# Altium schematic symbol library Connector_Audio.SchLib: 233 symbols (part 2 of 2)
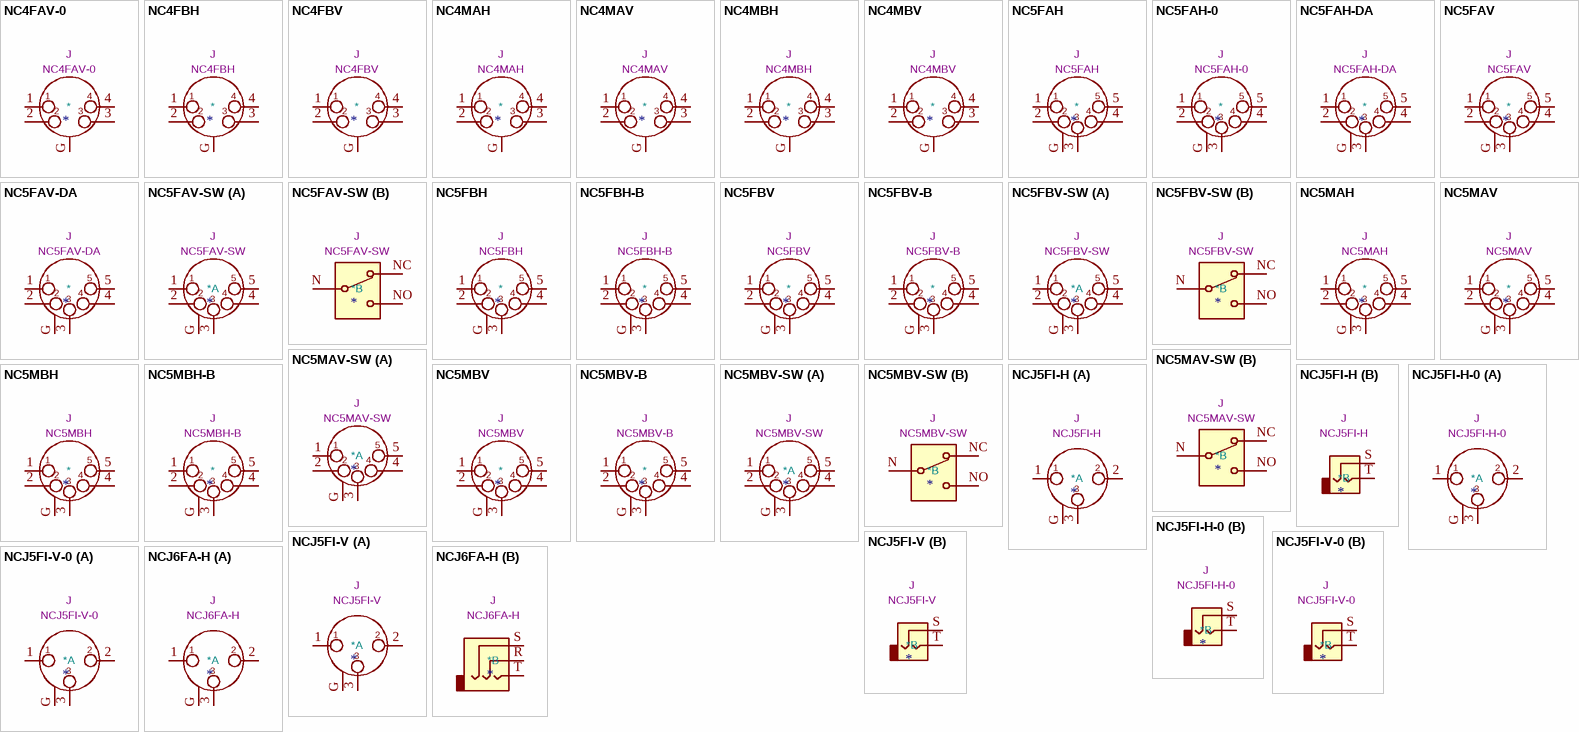
[diagram p8: symbols NC4FAV-0 to NCJ6FA-H]

## NC5FBH
designator *  value NC5FBH  Reference: J
ki_keywords: xlr connector neutrik; ki_description: B Series, 5 pole female XLR receptacle, grounding: separate ground contact to mating connector shell and front panel, horizontal PCB mount; ki_fp_filters: Jack*XLR*; Footprint: Connector_Audio:Jack_XLR_Neutrik_NC5FBH_Horizontal; Datasheet: https://www.neutrik.com/en/product/nc5fbh
pins: 1 P1, 2 P2, 3 P3, 4 P3, 5 P5, G

## NC5FBH-B
designator *  value NC5FBH-B  Reference: J
ki_keywords: xlr connector neutrik; ki_description: B Series, 5 pole female XLR receptacle, grounding: separate ground contact to mating connector shell and front panel, horizontal PCB mount, black chrome shell; ki_fp_filters: Jack*XLR*; Footprint: Connector_Audio:Jack_XLR_Neutrik_NC5FBH-B_Horizontal; Datasheet: https://www.neutrik.com/en/product/nc5fbh-b
pins: 1 P1, 2 P2, 3 P3, 4 P3, 5 P5, G

## NC5FBV
designator *  value NC5FBV  Reference: J
ki_keywords: xlr connector neutrik; ki_description: B Series, 5 pole female XLR receptacle, grounding: separate ground contact to mating connector shell and front panel, vertical PCB mount; ki_fp_filters: Jack*XLR*; Footprint: Connector_Audio:Jack_XLR_Neutrik_NC5FBV_Vertical; Datasheet: https://www.neutrik.com/en/product/nc5fbv
pins: 1 P1, 2 P2, 3 P3, 4 P3, 5 P5, G

## NC5FBV-B
designator *  value NC5FBV-B  Reference: J
ki_keywords: xlr connector neutrik; ki_description: B Series, 5 pole female XLR receptacle, grounding: separate ground contact to mating connector shell and front panel, vertical PCB mount, black chrome shell; ki_fp_filters: Jack*XLR*; Footprint: Connector_Audio:Jack_XLR_Neutrik_NC5FBV-B_Vertical; Datasheet: https://www.neutrik.com/en/product/nc5fbv-b
pins: 1 P1, 2 P2, 3 P3, 4 P3, 5 P5, G

## NC5FBV-SW
designator *  value NC5FBV-SW  Reference: J
ki_keywords: xlr connector spdt switch neutrik; ki_description: B Series, 5 pole female XLR receptacle, switching contacts, grounding: separate ground contact to mating connector shell and front panel, vertical PCB mount; ki_fp_filters: Jack*XLR*; Footprint: Connector_Audio:Jack_XLR_Neutrik_NC5FBV-SW_Vertical; Datasheet: https://www.neutrik.com/en/product/nc5fbv-sw
part A pins: 1 P1, 2 P2, 3 P3, 4 P3, 5 P5, G
part B pins: N, NC, NO

## NC5MAH
designator *  value NC5MAH  Reference: J
ki_keywords: xlr connector neutrik; ki_description: A Series, 5 pole male XLR receptacle, grounding: separate ground contact to mating connector shell and front panel, horizontal PCB mount; ki_fp_filters: Jack*XLR*; Footprint: Connector_Audio:Jack_XLR_Neutrik_NC5MAH_Horizontal; Datasheet: https://www.neutrik.com/en/product/nc5mah
pins: 1 P1, 2 P2, 3 P3, 4 P3, 5 P5, G

## NC5MAV
designator *  value NC5MAV  Reference: J
ki_keywords: xlr connector neutrik; ki_description: A Series, 5 pole male XLR receptacle, grounding: separate ground contact to mating connector shell and front panel, vertical PCB mount; ki_fp_filters: Jack*XLR*; Footprint: Connector_Audio:Jack_XLR_Neutrik_NC5MAV_Vertical; Datasheet: https://www.neutrik.com/en/product/nc5mav
pins: 1 P1, 2 P2, 3 P3, 4 P3, 5 P5, G

## NC5MAV-SW
designator *  value NC5MAV-SW  Reference: J
ki_keywords: xlr connector spdt switch neutrik; ki_description: A Series, 5 pole male XLR receptacle, switching contacts, grounding: separate ground contact to mating connector shell and front panel, vertical PCB mount; ki_fp_filters: Jack*XLR*; Footprint: Connector_Audio:Jack_XLR_Neutrik_NC5MAV-SW_Vertical; Datasheet: https://www.neutrik.com/en/product/nc5mav-sw
part A pins: 1 P1, 2 P2, 3 P3, 4 P3, 5 P5, G
part B pins: N, NC, NO

## NC5MBH
designator *  value NC5MBH  Reference: J
ki_keywords: xlr connector neutrik; ki_description: B Series, 5 pole male XLR receptacle, grounding: separate ground contact to mating connector shell and front panel, horizontal PCB mount; ki_fp_filters: Jack*XLR*; Footprint: Connector_Audio:Jack_XLR_Neutrik_NC5MBH_Horizontal; Datasheet: https://www.neutrik.com/en/product/nc5mbh
pins: 1 P1, 2 P2, 3 P3, 4 P3, 5 P5, G

## NC5MBH-B
designator *  value NC5MBH-B  Reference: J
ki_keywords: xlr connector neutrik; ki_description: B Series, 5 pole male XLR receptacle, grounding: separate ground contact to mating connector shell and front panel, horizontal PCB mount, black chrome shell; ki_fp_filters: Jack*XLR*; Footprint: Connector_Audio:Jack_XLR_Neutrik_NC5MBH-B_Horizontal; Datasheet: https://www.neutrik.com/en/product/nc5mbh-b
pins: 1 P1, 2 P2, 3 P3, 4 P3, 5 P5, G

## NC5MBV
designator *  value NC5MBV  Reference: J
ki_keywords: xlr connector neutrik; ki_description: B Series, 5 pole male XLR receptacle, grounding: separate ground contact to mating connector shell and front panel, vertical PCB mount; ki_fp_filters: Jack*XLR*; Footprint: Connector_Audio:Jack_XLR_Neutrik_NC5MBV_Vertical; Datasheet: https://www.neutrik.com/en/product/nc5mbv
pins: 1 P1, 2 P2, 3 P3, 4 P3, 5 P5, G

## NC5MBV-B
designator *  value NC5MBV-B  Reference: J
ki_keywords: xlr connector neutrik; ki_description: B Series, 5 pole male XLR receptacle, grounding: separate ground contact to mating connector shell and front panel, vertical PCB mount, black chrome shell; ki_fp_filters: Jack*XLR*; Footprint: Connector_Audio:Jack_XLR_Neutrik_NC5MBV-B_Vertical; Datasheet: https://www.neutrik.com/en/product/nc5mbv-b
pins: 1 P1, 2 P2, 3 P3, 4 P3, 5 P5, G

## NC5MBV-SW
designator *  value NC5MBV-SW  Reference: J
ki_keywords: xlr connector spdt switch neutrik; ki_description: B Series, 5 pole male XLR receptacle, switching contacts, grounding: separate ground contact to mating connector shell and front panel, vertical PCB mount; ki_fp_filters: Jack*XLR*; Footprint: Connector_Audio:Jack_XLR_Neutrik_NC5MBV-SW_Vertical; Datasheet: https://www.neutrik.com/en/product/nc5mbv-sw
part A pins: 1 P1, 2 P2, 3 P3, 4 P3, 5 P5, G
part B pins: N, NC, NO

## NCJ5FI-H
designator *  value NCJ5FI-H  Reference: J
ki_keywords: xlr connector neutrik; ki_description: Combo I series, 3 pole XLR female receptacle with 6.35mm (1/4in) mono jack without switching contact, horizontal PCB mount, retention spring; ki_fp_filters: Jack*XLR*6.35mm*; Footprint: Connector_Audio:Jack_XLR-6.35mm_Neutrik_NCJ5FI-H_Horizontal; Datasheet: https://www.neutrik.com/en/product/ncj5fi-h
part A pins: 1, 2, 3, G
part B pins: S, T

## NCJ5FI-H-0
designator *  value NCJ5FI-H-0  Reference: J
ki_keywords: xlr connector neutrik; ki_description: Combo I series, 3 pole XLR female receptacle with 6.35mm (1/4in) mono jack without switching contact, horizontal PCB mount; ki_fp_filters: Jack*XLR*6.35mm*; Footprint: Connector_Audio:Jack_XLR-6.35mm_Neutrik_NCJ5FI-H-0_Horizontal; Datasheet: https://www.neutrik.com/en/product/ncj5fi-h-0
part A pins: 1, 2, 3, G
part B pins: S, T

## NCJ5FI-V
designator *  value NCJ5FI-V  Reference: J
ki_keywords: xlr connector neutrik; ki_description: Combo I series, 3 pole XLR female receptacle with 6.35mm (1/4in) mono jack without switching contact, vertical PCB mount, retention spring; ki_fp_filters: Jack*XLR*6.35mm*; Footprint: Connector_Audio:Jack_XLR-6.35mm_Neutrik_NCJ5FI-V_Vertical; Datasheet: https://www.neutrik.com/en/product/ncj5fi-v
part A pins: 1, 2, 3, G
part B pins: S, T

## NCJ5FI-V-0
designator *  value NCJ5FI-V-0  Reference: J
ki_keywords: xlr connector neutrik; ki_description: Combo I series, 3 pole XLR female receptacle with 6.35mm (1/4in) mono jack without switching contact, vertical PCB mount; ki_fp_filters: Jack*XLR*6.35mm*; Footprint: Connector_Audio:Jack_XLR-6.35mm_Neutrik_NCJ5FI-V-0_Vertical; Datasheet: https://www.neutrik.com/en/product/ncj5fi-v-0
part A pins: 1, 2, 3, G
part B pins: S, T

## NCJ6FA-H
designator *  value NCJ6FA-H  Reference: J
ki_keywords: xlr connector neutrik; ki_description: Combo A series, 3 pole XLR female receptacle with 6.35mm (1/4in) stereo jack, horizontal PCB mount; ki_fp_filters: Jack*XLR*6.35mm*; Footprint: Connector_Audio:Jack_XLR-6.35mm_Neutrik_NCJ6FA-H_Horizontal; Datasheet: https://www.neutrik.com/en/product/ncj6fa-h
part A pins: 1, 2, 3, G
part B pins: R, S, T

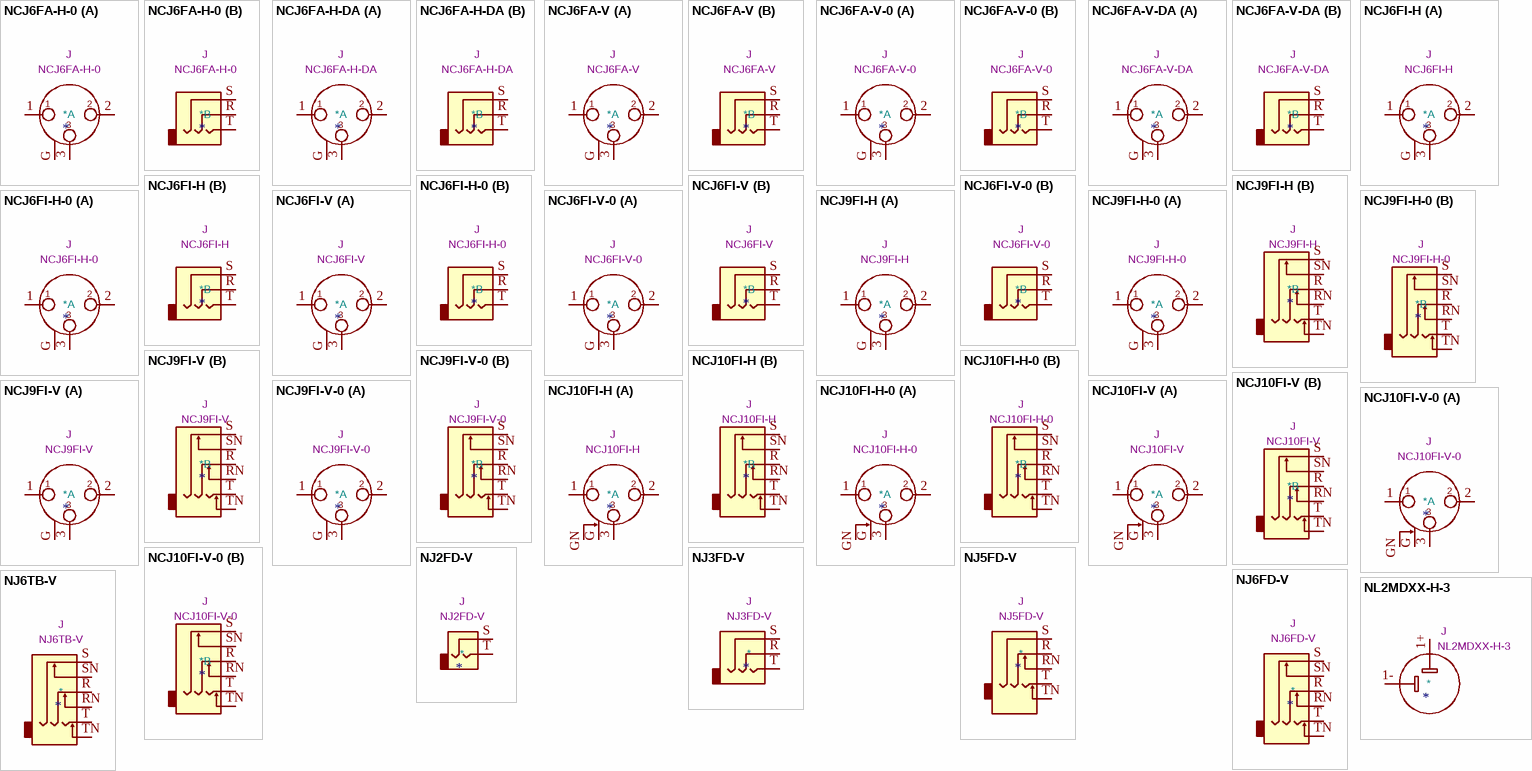
[diagram p4: symbols NCJ6FA-H-0 to NL2MDXX-H-3]

## NCJ6FA-H-0
designator *  value NCJ6FA-H-0  Reference: J
ki_keywords: xlr connector neutrik; ki_description: Combo A series, 3 pole XLR female receptacle with 6.35mm (1/4in) stereo jack, horizontal PCB mount, retention spring; ki_fp_filters: Jack*XLR*6.35mm*; Footprint: Connector_Audio:Jack_XLR-6.35mm_Neutrik_NCJ6FA-H-0_Horizontal; Datasheet: https://www.neutrik.com/en/product/ncj6fa-h-0
part A pins: 1, 2, 3, G
part B pins: R, S, T

## NCJ6FA-H-DA
designator *  value NCJ6FA-H-DA  Reference: J
ki_keywords: xlr connector neutrik; ki_description: Combo A series, 3 pole XLR female receptacle with 6.35mm (1/4in) stereo jack, horizontal PCB mount, asymmetric push; ki_fp_filters: Jack*XLR*6.35mm*; Footprint: Connector_Audio:Jack_XLR-6.35mm_Neutrik_NCJ6FA-H-DA_Horizontal; Datasheet: https://www.neutrik.com/en/product/ncj6fa-h-da
part A pins: 1, 2, 3, G
part B pins: R, S, T

## NCJ6FA-V
designator *  value NCJ6FA-V  Reference: J
ki_keywords: xlr connector neutrik; ki_description: Combo A series, 3 pole XLR female receptacle with 6.35mm (1/4in) stereo jack, vertical PCB mount; ki_fp_filters: Jack*XLR*6.35mm*; Footprint: Connector_Audio:Jack_XLR-6.35mm_Neutrik_NCJ6FA-V_Vertical; Datasheet: https://www.neutrik.com/en/product/ncj6fa-v
part A pins: 1, 2, 3, G
part B pins: R, S, T

## NCJ6FA-V-0
designator *  value NCJ6FA-V-0  Reference: J
ki_keywords: xlr connector neutrik; ki_description: Combo A series, 3 pole XLR female receptacle with 6.35mm (1/4in) stereo jack, vertical PCB mount, retention spring; ki_fp_filters: Jack*XLR*6.35mm*; Footprint: Connector_Audio:Jack_XLR-6.35mm_Neutrik_NCJ6FA-V-0_Vertical; Datasheet: https://www.neutrik.com/en/product/ncj6fa-v-0
part A pins: 1, 2, 3, G
part B pins: R, S, T

## NCJ6FA-V-DA
designator *  value NCJ6FA-V-DA  Reference: J
ki_keywords: xlr connector neutrik; ki_description: Combo A series, 3 pole XLR female receptacle with 6.35mm (1/4in) stereo jack, vertical PCB mount, asymmetric push; ki_fp_filters: Jack*XLR*6.35mm*; Footprint: Connector_Audio:Jack_XLR-6.35mm_Neutrik_NCJ6FA-V-DA_Vertical; Datasheet: https://www.neutrik.com/en/product/ncj6fa-v-da
part A pins: 1, 2, 3, G
part B pins: R, S, T

## NCJ6FI-H
designator *  value NCJ6FI-H  Reference: J
ki_keywords: xlr connector neutrik; ki_description: Combo I series, 3 pole XLR female receptacle with 6.35mm (1/4in) stereo jack without switching contact, horizontal PCB mount, retention spring; ki_fp_filters: Jack*XLR*6.35mm*; Footprint: Connector_Audio:Jack_XLR-6.35mm_Neutrik_NCJ6FI-H_Horizontal; Datasheet: https://www.neutrik.com/en/product/ncj6fi-h
part A pins: 1, 2, 3, G
part B pins: R, S, T

## NCJ6FI-H-0
designator *  value NCJ6FI-H-0  Reference: J
ki_keywords: xlr connector neutrik; ki_description: Combo I series, 3 pole XLR female receptacle with 6.35mm (1/4in) stereo jack without switching contact, horizontal PCB mount; ki_fp_filters: Jack*XLR*6.35mm*; Footprint: Connector_Audio:Jack_XLR-6.35mm_Neutrik_NCJ6FI-H-0_Horizontal; Datasheet: https://www.neutrik.com/en/product/ncj6fi-h-0
part A pins: 1, 2, 3, G
part B pins: R, S, T

## NCJ6FI-V
designator *  value NCJ6FI-V  Reference: J
ki_keywords: xlr connector neutrik; ki_description: Combo I series, 3 pole XLR female receptacle with 6.35mm (1/4in) stereo jack without switching contact, vertical PCB mount, retention spring; ki_fp_filters: Jack*XLR*6.35mm*; Footprint: Connector_Audio:Jack_XLR-6.35mm_Neutrik_NCJ6FI-V_Vertical; Datasheet: https://www.neutrik.com/en/product/ncj6fi-v
part A pins: 1, 2, 3, G
part B pins: R, S, T

## NCJ6FI-V-0
designator *  value NCJ6FI-V-0  Reference: J
ki_keywords: xlr connector neutrik; ki_description: Combo I series, 3 pole XLR female receptacle with 6.35mm (1/4in) stereo jack without switching contact, vertical PCB mount; ki_fp_filters: Jack*XLR*6.35mm*; Footprint: Connector_Audio:Jack_XLR-6.35mm_Neutrik_NCJ6FI-V-0_Vertical; Datasheet: https://www.neutrik.com/en/product/ncj6fi-v-0
part A pins: 1, 2, 3, G
part B pins: R, S, T

## NCJ9FI-H
designator *  value NCJ9FI-H  Reference: J
ki_keywords: xlr connector neutrik; ki_description: Combo I series, 3 pole XLR female receptacle with 6.35mm (1/4in) switching stereo jack, horizontal PCB mount, retention spring; ki_fp_filters: Jack*XLR*6.35mm*; Footprint: Connector_Audio:Jack_XLR-6.35mm_Neutrik_NCJ9FI-H_Horizontal; Datasheet: https://www.neutrik.com/en/product/ncj9fi-h
part A pins: 1, 2, 3, G
part B pins: R, RN, S, SN, T, TN

## NCJ9FI-H-0
designator *  value NCJ9FI-H-0  Reference: J
ki_keywords: xlr connector neutrik; ki_description: Combo I series, 3 pole XLR female receptacle with 6.35mm (1/4in) switching stereo jack, horizontal PCB mount; ki_fp_filters: Jack*XLR*6.35mm*; Footprint: Connector_Audio:Jack_XLR-6.35mm_Neutrik_NCJ9FI-H-0_Horizontal; Datasheet: https://www.neutrik.com/en/product/ncj9fi-h-0
part A pins: 1, 2, 3, G
part B pins: R, RN, S, SN, T, TN

## NCJ9FI-V
designator *  value NCJ9FI-V  Reference: J
ki_keywords: xlr connector neutrik; ki_description: Combo I series, 3 pole XLR female receptacle with 6.35mm (1/4in) switching stereo jack, vertical PCB mount, retention spring; ki_fp_filters: Jack*XLR*6.35mm*; Footprint: Connector_Audio:Jack_XLR-6.35mm_Neutrik_NCJ9FI-V_Vertical; Datasheet: https://www.neutrik.com/en/product/ncj9fi-v
part A pins: 1, 2, 3, G
part B pins: R, RN, S, SN, T, TN

## NCJ9FI-V-0
designator *  value NCJ9FI-V-0  Reference: J
ki_keywords: xlr connector neutrik; ki_description: Combo I series, 3 pole XLR female receptacle with 6.35mm (1/4in) switching stereo jack, vertical PCB mount; ki_fp_filters: Jack*XLR*6.35mm*; Footprint: Connector_Audio:Jack_XLR-6.35mm_Neutrik_NCJ9FI-V-0_Vertical; Datasheet: https://www.neutrik.com/en/product/ncj9fi-v-0
part A pins: 1, 2, 3, G
part B pins: R, RN, S, SN, T, TN

## NCJ10FI-H
designator *  value NCJ10FI-H  Reference: J
ki_keywords: xlr connector neutrik; ki_description: Combo I series, 3 pole XLR female receptacle with 6.35mm (1/4in) switching stereo jack and switching ground contact, horizontal PCB mount, retention spring; ki_fp_filters: Jack*XLR*6.35mm*; Footprint: Connector_Audio:Jack_XLR-6.35mm_Neutrik_NCJ10FI-H_Horizontal; Datasheet: https://www.neutrik.com/en/product/ncj10fi-h
part A pins: 1, 2, 3, G, GN
part B pins: R, RN, S, SN, T, TN

## NCJ10FI-H-0
designator *  value NCJ10FI-H-0  Reference: J
ki_keywords: xlr connector neutrik; ki_description: Combo I series, 3 pole XLR female receptacle with 6.35mm (1/4in) switching stereo jack and switching ground contact, horizontal PCB mount; ki_fp_filters: Jack*XLR*6.35mm*; Footprint: Connector_Audio:Jack_XLR-6.35mm_Neutrik_NCJ10FI-H-0_Horizontal; Datasheet: https://www.neutrik.com/en/product/ncj10fi-h-0
part A pins: 1, 2, 3, G, GN
part B pins: R, RN, S, SN, T, TN

## NCJ10FI-V
designator *  value NCJ10FI-V  Reference: J
ki_keywords: xlr connector neutrik; ki_description: Combo I series, 3 pole XLR female receptacle with 6.35mm (1/4in) switching stereo jack and switching ground contact, vertical PCB mount, retention spring; ki_fp_filters: Jack*XLR*6.35mm*; Footprint: Connector_Audio:Jack_XLR-6.35mm_Neutrik_NCJ10FI-V_Vertical; Datasheet: https://www.neutrik.com/en/product/ncj10fi-v
part A pins: 1, 2, 3, G, GN
part B pins: R, RN, S, SN, T, TN

## NCJ10FI-V-0
designator *  value NCJ10FI-V-0  Reference: J
ki_keywords: xlr connector neutrik; ki_description: Combo I series, 3 pole XLR female receptacle with 6.35mm (1/4in) switching stereo jack and switching ground contact, vertical PCB mount; ki_fp_filters: Jack*XLR*6.35mm*; Footprint: Connector_Audio:Jack_XLR-6.35mm_Neutrik_NCJ10FI-V-0_Vertical; Datasheet: https://www.neutrik.com/en/product/ncj10fi-v-0
part A pins: 1, 2, 3, G, GN
part B pins: R, RN, S, SN, T, TN

## NJ2FD-V
designator *  value NJ2FD-V  Reference: J
ki_keywords: audio jack receptacle mono phone headphone TS connector neutrik; ki_description: 6.35mm (1/4 in) Vertical Jack, Non-switching mono jack (T/S); ki_fp_filters: Jack*; Footprint: Connector_Audio:Jack_6.35mm_Neutrik_NJ2FD-V_Vertical; Datasheet: https://www.neutrik.com/en/product/nj2fd-v
pins: S, T

## NJ3FD-V
designator *  value NJ3FD-V  Reference: J
ki_keywords: audio jack receptacle stereo headphones phones TRS connector neutrik; ki_description: 6.35mm (1/4 in) Vertical Jack, Non-switching stereo jack (T/R/S); ki_fp_filters: Jack*; Footprint: Connector_Audio:Jack_6.35mm_Neutrik_NJ3FD-V_Vertical; Datasheet: https://www.neutrik.com/en/product/nj3fd-v
pins: R, S, T

## NJ5FD-V
designator *  value NJ5FD-V  Reference: J
ki_keywords: audio jack receptacle stereo headphones phones TRS connector neutrik; ki_description: 6.35mm (1/4 in) Vertical Jack, 2 x switching (normalling) stereo jack (T/TN/R/RN/S); ki_fp_filters: Jack*; Footprint: Connector_Audio:Jack_6.35mm_Neutrik_NJ5FD-V_Vertical; Datasheet: https://www.neutrik.com/en/product/nj5fd-v
pins: R, RN, S, T, TN

## NJ6FD-V
designator *  value NJ6FD-V  Reference: J
ki_keywords: audio jack receptacle stereo headphones connector neutrik; ki_description: 6.35mm (1/4 in) Vertical Jack, 3 x switching (normalling) stereo jack (T/TN/R/RN/S/SN); ki_fp_filters: Jack*; Footprint: Connector_Audio:Jack_6.35mm_Neutrik_NJ6FD-V_Vertical; Datasheet: https://www.neutrik.com/en/product/nj6fd-v
pins: R, RN, S, SN, T, TN

## NJ6TB-V
designator *  value NJ6TB-V  Reference: J
ki_keywords: audio jack receptacle stereo headphones connector neutrik; ki_description: 6.35mm (1/4 in) Vertical Jack, 3 x switching (normalling) stereo jack  B-gauge type (T/TN/R/RN/S/SN); ki_fp_filters: Jack*; Footprint: Connector_Audio:Jack_6.35mm_Neutrik_NJ6TB-V_Vertical; Datasheet: https://www.neutrik.com/en/product/nj6tb-v
pins: R, RN, S, SN, T, TN

## NL2MDXX-H-3
designator *  value NL2MDXX-H-3  Reference: J
ki_keywords: speakon connector neutrik; ki_description: speakON Chassis Connectors, 2 pole chassis connector, gray D-size flange, countersunk thru holes, horizontal PCB. Replaces NL2MD-H; ki_fp_filters: Jack*speakON*; Footprint: Connector_Audio:Jack_speakON_Neutrik_NL2MDXX-H-3_Horizontal; Datasheet: https://www.neutrik.com/en/product/nl2mdxx-h-3
pins: 1+, 1-

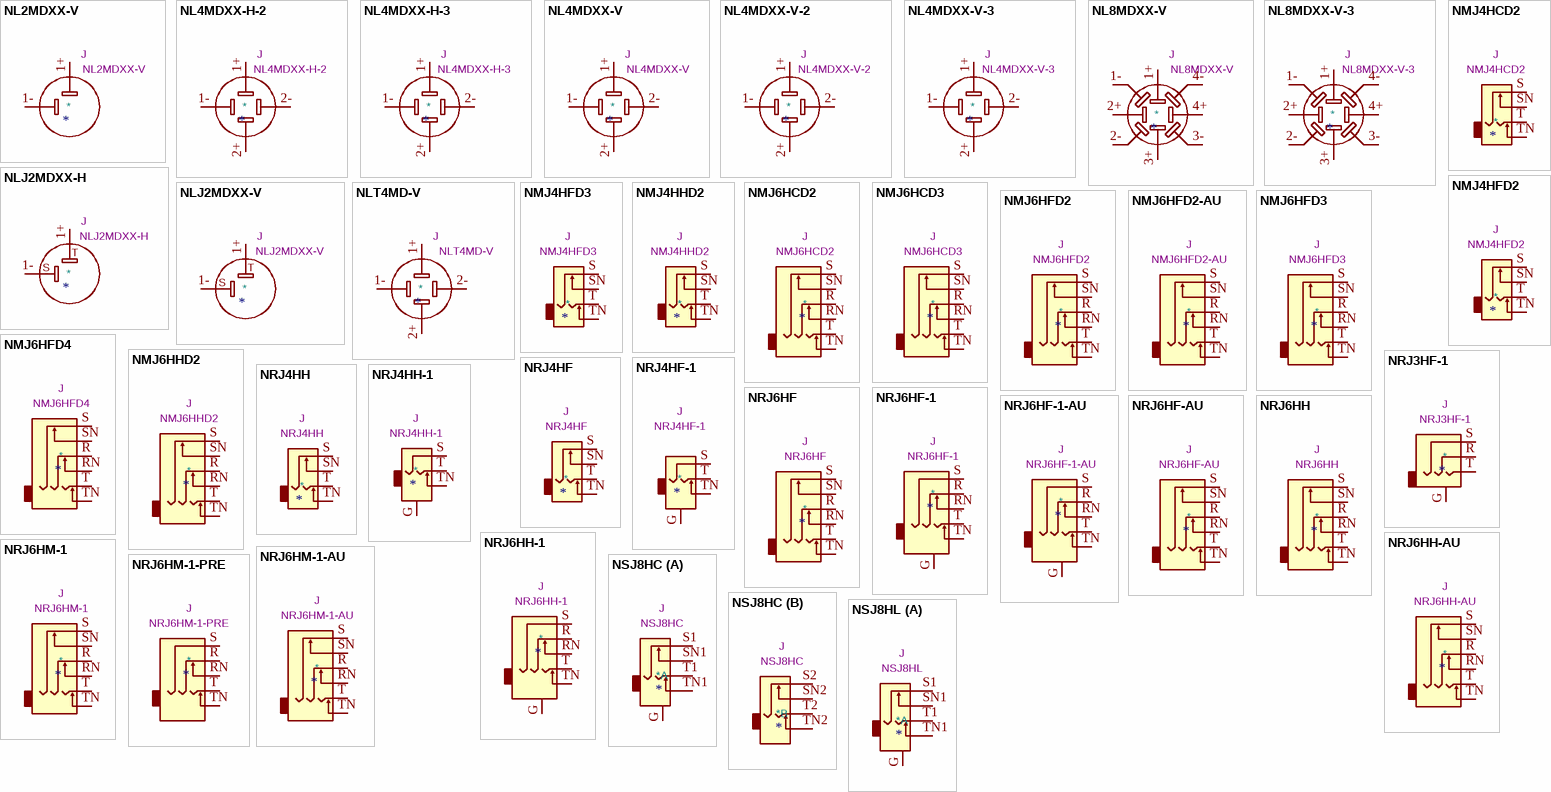
[diagram p5: symbols NL2MDXX-V to NSJ8HL]

## NL2MDXX-V
designator *  value NL2MDXX-V  Reference: J
ki_keywords: speakon connector neutrik; ki_description: speakON Chassis Connectors, 2 pole chassis connector, black D-size flange, countersunk thru holes, vertical PCB mount. Replaces NL2MD-V; ki_fp_filters: Jack*speakON*; Footprint: Connector_Audio:Jack_speakON_Neutrik_NL2MDXX-V_Vertical; Datasheet: https://www.neutrik.com/en/product/nl2mdxx-v
pins: 1+, 1-

## NL4MDXX-H-2
designator *  value NL4MDXX-H-2  Reference: J
ki_keywords: speakon connector neutrik; ki_description: speakON Chassis Connectors, 4 pole chassis connector, black D-size flange, mirrored self tapping screw holes (A-screw), horizontal PCB mount. Replaces NL4MD-H-2; ki_fp_filters: Jack*speakON*; Footprint: Connector_Audio:Jack_speakON_Neutrik_NL4MDXX-H-2_Horizontal; Datasheet: https://www.neutrik.com/en/product/nl4mdxx-h-2
pins: 1+, 1-, 2+, 2-

## NL4MDXX-H-3
designator *  value NL4MDXX-H-3  Reference: J
ki_keywords: speakon connector neutrik; ki_description: speakON Chassis Connectors, 4 pole chassis connector, grey D-size flange, self tapping screw holes (A-screw), horizontal PCB mount. Replaces NL4MD-H, NL4MD-V-R, and NL4MD-V-S; ki_fp_filters: Jack*speakON*; Footprint: Connector_Audio:Jack_speakON_Neutrik_NL4MDXX-H-3_Horizontal; Datasheet: https://www.neutrik.com/en/product/nl4mdxx-h-3
pins: 1+, 1-, 2+, 2-

## NL4MDXX-V
designator *  value NL4MDXX-V  Reference: J
ki_keywords: speakon connector neutrik; ki_description: speakON Chassis Connectors, 4 pole chassis connector, black D-size flange, countersunk thru holes, vertical PCB mount. Replaces NL4MD-V, NL4MD-V-R, and NL4MD-V-S; ki_fp_filters: Jack*speakON*; Footprint: Connector_Audio:Jack_speakON_Neutrik_NL4MDXX-V_Vertical; Datasheet: https://www.neutrik.com/en/product/nl4mdxx-v
pins: 1+, 1-, 2+, 2-

## NL4MDXX-V-2
designator *  value NL4MDXX-V-2  Reference: J
ki_keywords: speakon connector neutrik; ki_description: speakON Chassis Connectors, 4 pole chassis connector, black D-size flange, mirrored self tapping screw holes (A-screw), vertical PCB mount. Replaces NL4MD-V-2; ki_fp_filters: Jack*speakON*; Footprint: Connector_Audio:Jack_speakON_Neutrik_NL4MDXX-V-2_Vertical; Datasheet: https://www.neutrik.com/en/product/nl4mdxx-v-2
pins: 1+, 1-, 2+, 2-

## NL4MDXX-V-3
designator *  value NL4MDXX-V-3  Reference: J
ki_keywords: speakon connector neutrik; ki_description: speakON Chassis Connectors, 4 pole chassis connector, grey D-size flange, self tapping screw holes (A-screw), vertical PCB mount. Replaces NL4MD-V-1; ki_fp_filters: Jack*speakON*; Footprint: Connector_Audio:Jack_speakON_Neutrik_NL4MDXX-V-3_Vertical; Datasheet: https://www.neutrik.com/en/product/nl4mdxx-v-3
pins: 1+, 1-, 2+, 2-

## NL8MDXX-V
designator *  value NL8MDXX-V  Reference: J
ki_keywords: speakon connector neutrik; ki_description: speakON Chassis Connectors, 8 pole chassis connector, nickel metal square G-size flange, countersunk thru holes, vertical PCB mount. Replaces NL8MD-V; ki_fp_filters: Jack*speakON*; Footprint: Connector_Audio:Jack_speakON_Neutrik_NL8MDXX-V_Vertical; Datasheet: https://www.neutrik.com/en/product/nl8mdxx-v
pins: 1+, 1-, 2+, 2-, 3+, 3-, 4+, 4-

## NL8MDXX-V-3
designator *  value NL8MDXX-V-3  Reference: J
ki_keywords: speakon connector neutrik; ki_description: speakON Chassis Connectors, 8 pole chassis connector, nickel metal square G-size flange, self tapping screw holes (A-screw), vertical PCB mount. Replaces NL8MD-V-1; ki_fp_filters: Jack*speakON*; Footprint: Connector_Audio:Jack_speakON_Neutrik_NL8MDXX-V-3_Vertical; Datasheet: https://www.neutrik.com/en/product/nl8mdxx-v-3
pins: 1+, 1-, 2+, 2-, 3+, 3-, 4+, 4-

## NLJ2MDXX-H
designator *  value NLJ2MDXX-H  Reference: J
ki_keywords: speakon connector neutrik; ki_description: speakON Combo, 2 pole combination of speakON socket and 6.35mm (1/4in) jack receptacle, horizontal pcb mount. Replaces NLJ2MD-H; ki_fp_filters: Jack*speakON*; Footprint: Connector_Audio:Jack_speakON-6.35mm_Neutrik_NLJ2MDXX-H_Horizontal; Datasheet: https://www.neutrik.com/en/product/nlj2mdxx-h
pins: 1+, 1-
text: T; S

## NLJ2MDXX-V
designator *  value NLJ2MDXX-V  Reference: J
ki_keywords: speakon connector neutrik; ki_description: speakON Combo, 2 pole combination of speakON socket and 6.35mm (1/4in) jack receptacle, vertical pcb mount. Replaces NLJ2MD-V; ki_fp_filters: Jack*speakON*; Footprint: Connector_Audio:Jack_speakON-6.35mm_Neutrik_NLJ2MDXX-V_Vertical; Datasheet: https://www.neutrik.com/en/product/nlj2mdxx-v
pins: 1+, 1-
text: T; S

## NLT4MD-V
designator *  value NLT4MD-V  Reference: J
ki_keywords: speakon connector neutrik; ki_description: STX Series, 4 pole male chassis connector, metal housing, vertical PCB mount,  self tapping screw holes (A-screw); ki_fp_filters: Jack*speakON*; Footprint: Connector_Audio:Jack_speakON_Neutrik_NLT4MD-V_Vertical; Datasheet: https://www.neutrik.com/en/product/nlt4md-v
pins: 1+, 1-, 2+, 2-

## NMJ4HCD2
designator *  value NMJ4HCD2  Reference: J
ki_keywords: audio jack receptacle mono headphones phone TS connector neutrik; ki_description: M Series, 6.35mm (1/4in) mono jack, switched, with chrome ferrule and straight PCB pins; ki_fp_filters: Jack*; Footprint: Connector_Audio:Jack_6.35mm_Neutrik_NMJ4HCD2_Horizontal; Datasheet: https://www.neutrik.com/en/product/nmj4hcd2
pins: S, SN, T, TN

## NMJ4HFD2
designator *  value NMJ4HFD2  Reference: J
ki_keywords: audio jack receptacle mono headphones phone TS connector neutrik; ki_description: M Series, 6.35mm (1/4in) mono jack, switched, with full threaded nose and straight PCB pins; ki_fp_filters: Jack*; Footprint: Connector_Audio:Jack_6.35mm_Neutrik_NMJ4HFD2_Horizontal; Datasheet: https://www.neutrik.com/en/product/nmj4hfd2
pins: S, SN, T, TN

## NMJ4HFD3
designator *  value NMJ4HFD3  Reference: J
ki_keywords: audio jack receptacle mono headphones phone TS connector neutrik; ki_description: M Series, 6.35mm (1/4in) mono jack, switched, with a full threaded nose and offset PCB pins; ki_fp_filters: Jack*; Footprint: Connector_Audio:Jack_6.35mm_Neutrik_NMJ4HFD3_Horizontal; Datasheet: https://www.neutrik.com/en/product/nmj4hfd3
pins: S, SN, T, TN

## NMJ4HHD2
designator *  value NMJ4HHD2  Reference: J
ki_keywords: audio jack receptacle mono headphones phone TS connector neutrik; ki_description: M Series, 6.35mm (1/4in) mono jack, switched, with a half threaded nose and offset PCB pins; ki_fp_filters: Jack*; Footprint: Connector_Audio:Jack_6.35mm_Neutrik_NMJ4HHD2_Horizontal; Datasheet: https://www.neutrik.com/en/product/nmj4hhd2
pins: S, SN, T, TN

## NMJ6HCD2
designator *  value NMJ6HCD2  Reference: J
ki_keywords: audio jack receptacle stereo headphones connector neutrik; ki_description: M Series, 6.35mm (1/4in) stereo jack, switched, with chrome ferrule and straight PCB pins; ki_fp_filters: Jack*; Footprint: Connector_Audio:Jack_6.35mm_Neutrik_NMJ6HCD2_Horizontal; Datasheet: https://www.neutrik.com/en/product/nmj6hcd2
pins: R, RN, S, SN, T, TN

## NMJ6HCD3
designator *  value NMJ6HCD3  Reference: J
ki_keywords: audio jack receptacle stereo headphones connector neutrik; ki_description: M Series, 6.35mm (1/4in) stereo jack, switched, with chrome ferrule and offset PCB pins; ki_fp_filters: Jack*; Footprint: Connector_Audio:Jack_6.35mm_Neutrik_NMJ6HCD3_Horizontal; Datasheet: https://www.neutrik.com/en/product/nmj6hcd3
pins: R, RN, S, SN, T, TN

## NMJ6HFD2
designator *  value NMJ6HFD2  Reference: J
ki_keywords: audio jack receptacle stereo headphones connector neutrik; ki_description: M Series, 6.35mm (1/4in) stereo jack, switched, with full threaded nose and straight PCB pins; ki_fp_filters: Jack*; Footprint: Connector_Audio:Jack_6.35mm_Neutrik_NMJ6HFD2_Horizontal; Datasheet: https://www.neutrik.com/en/product/nmj6hfd2
pins: R, RN, S, SN, T, TN

## NMJ6HFD2-AU
designator *  value NMJ6HFD2-AU  Reference: J
ki_keywords: audio jack receptacle stereo headphones connector neutrik; ki_description: M Series, 6.35mm (1/4in) stereo jack, switched, full threaded nose, straight PCB pins, gold plated contacts; ki_fp_filters: Jack*; Footprint: Connector_Audio:Jack_6.35mm_Neutrik_NMJ6HFD2-AU_Horizontal; Datasheet: https://www.neutrik.com/en/product/nmj6hfd2-au
pins: R, RN, S, SN, T, TN

## NMJ6HFD3
designator *  value NMJ6HFD3  Reference: J
ki_keywords: audio jack receptacle stereo headphones connector neutrik; ki_description: M Series, 6.35mm (1/4in) stereo jack, switched, with full threaded nose and offset PCB pins; ki_fp_filters: Jack*; Footprint: Connector_Audio:Jack_6.35mm_Neutrik_NMJ6HFD3_Horizontal; Datasheet: https://www.neutrik.com/en/product/nmj6hfd3
pins: R, RN, S, SN, T, TN

## NMJ6HFD4
designator *  value NMJ6HFD4  Reference: J
ki_keywords: audio jack receptacle stereo headphones connector neutrik; ki_description: Obsolete: M Series, 6.35mm (1/4in) stereo jack, switched, with full threaded nose and fishtail PCB pins; ki_fp_filters: Jack*; Footprint: Connector_Audio:Jack_6.35mm_Neutrik_NMJ6HFD4_Horizontal; Datasheet: https://www.neutrik.com/en/product/nmj6hfd4
pins: R, RN, S, SN, T, TN

## NMJ6HHD2
designator *  value NMJ6HHD2  Reference: J
ki_keywords: audio jack receptacle stereo headphones connector neutrik; ki_description: M Series, 6.35mm (1/4in) stereo jack, switched, with half threaded nose and offset PCB pins; ki_fp_filters: Jack*; Footprint: Connector_Audio:Jack_6.35mm_Neutrik_NMJ6HHD2_Horizontal; Datasheet: https://www.neutrik.com/en/product/nmj6hhd2
pins: R, RN, S, SN, T, TN

## NRJ3HF-1
designator *  value NRJ3HF-1  Reference: J
ki_keywords: audio jack receptacle stereo headphones phones TRS connector neutrik; ki_description: Slim Jacks, 6.35mm (1/4in) stereo jack, unswitched, fully threaded nose, sleeve contact/front panel connection; ki_fp_filters: Jack*; Footprint: Connector_Audio:Jack_6.35mm_Neutrik_NRJ3HF-1_Horizontal; Datasheet: https://www.neutrik.com/en/product/nrj3hf-1
pins: G, R, S, T

## NRJ4HF
designator *  value NRJ4HF  Reference: J
ki_keywords: audio jack dual receptacle mono headphones phone TS connector neutrik; ki_description: Slim Jacks, 6.35mm (1/4in) mono jack, switched, fully threaded nose; ki_fp_filters: Jack*; Footprint: Connector_Audio:Jack_6.35mm_Neutrik_NRJ4HF_Horizontal; Datasheet: https://www.neutrik.com/en/product/nrj4hf
pins: S, SN, T, TN

## NRJ4HF-1
designator *  value NRJ4HF-1  Reference: J
ki_keywords: audio jack receptacle stereo headphones phones TRS connector neutrik; ki_description: Slim Jacks, 6.35mm (1/4in) mono jack, switched, fully threaded nose, sleeve contact/front panel connection; ki_fp_filters: Jack*; Footprint: Connector_Audio:Jack_6.35mm_Neutrik_NRJ4HF-1_Horizontal; Datasheet: https://www.neutrik.com/en/product/nrj4hf-1
pins: G, S, T, TN

## NRJ4HH
designator *  value NRJ4HH  Reference: J
ki_keywords: audio jack receptacle mono headphones phone TS connector neutrik; ki_description: Slim Jacks, 6.35mm (1/4in) mono jack, switched, half threaded nose; ki_fp_filters: Jack*; Footprint: Connector_Audio:Jack_6.35mm_Neutrik_NRJ4HH_Horizontal; Datasheet: https://www.neutrik.com/en/product/nrj4hh
pins: S, SN, T, TN

## NRJ4HH-1
designator *  value NRJ4HH-1  Reference: J
ki_keywords: audio jack receptacle mono headphones phone TS connector neutrik; ki_description: Slim Jacks, 6.35mm (1/4in) mono jack, switched, half threaded nose, sleeve contact/front panel connection; ki_fp_filters: Jack*; Footprint: Connector_Audio:Jack_6.35mm_Neutrik_NRJ4HH-1_Horizontal; Datasheet: https://www.neutrik.com/en/product/nrj4hh-1
pins: G, S, T, TN

## NRJ6HF
designator *  value NRJ6HF  Reference: J
ki_keywords: audio jack receptacle stereo headphones connector neutrik; ki_description: Slim Jacks, 6.35mm (1/4in) stereo jack, switched, fully threaded nose; ki_fp_filters: Jack*; Footprint: Connector_Audio:Jack_6.35mm_Neutrik_NRJ6HF_Horizontal; Datasheet: https://www.neutrik.com/en/product/nrj6hf
pins: R, RN, S, SN, T, TN

## NRJ6HF-1
designator *  value NRJ6HF-1  Reference: J
ki_keywords: audio jack receptacle stereo headphones phones TRS connector neutrik; ki_description: Slim Jacks, 6.35mm (1/4in) stereo jack, switched, fully threaded nose, sleeve contact/front panel connection; ki_fp_filters: Jack*; Footprint: Connector_Audio:Jack_6.35mm_Neutrik_NRJ6HF-1_Horizontal; Datasheet: https://www.neutrik.com/en/product/nrj6hf-1
pins: G, R, RN, S, T, TN

## NRJ6HF-1-AU
designator *  value NRJ6HF-1-AU  Reference: J
ki_keywords: audio jack receptacle stereo headphones phones TRS connector neutrik; ki_description: Slim Jacks, 6.35mm (1/4in) stereo jack, switched, gold plated contacts, fully threaded nose, sleeve contact/front panel connection; ki_fp_filters: Jack*; Footprint: Connector_Audio:Jack_6.35mm_Neutrik_NRJ6HF-1-AU_Horizontal; Datasheet: https://www.neutrik.com/en/product/nrj6hf-1-au
pins: G, R, RN, S, T, TN

## NRJ6HF-AU
designator *  value NRJ6HF-AU  Reference: J
ki_keywords: audio jack receptacle stereo headphones connector neutrik; ki_description: Slim Jacks, 6.35mm (1/4in) stereo jack, switched, gold plated contacts, fully threaded nose; ki_fp_filters: Jack*; Footprint: Connector_Audio:Jack_6.35mm_Neutrik_NRJ6HF-AU_Horizontal; Datasheet: https://www.neutrik.com/en/product/nrj6hf-au
pins: R, RN, S, SN, T, TN

## NRJ6HH
designator *  value NRJ6HH  Reference: J
ki_keywords: audio jack receptacle stereo headphones connector neutrik; ki_description: Slim Jacks, 6.35mm (1/4in) stereo jack, switched, half threaded nose; ki_fp_filters: Jack*; Footprint: Connector_Audio:Jack_6.35mm_Neutrik_NRJ6HH_Horizontal; Datasheet: https://www.neutrik.com/en/product/nrj6hh
pins: R, RN, S, SN, T, TN

## NRJ6HH-1
designator *  value NRJ6HH-1  Reference: J
ki_keywords: audio jack receptacle stereo headphones phones TRS connector neutrik; ki_description: Slim Jacks, 6.35mm (1/4in) stereo jack, switched, half threaded nose, sleeve contact/front panel connection; ki_fp_filters: Jack*; Footprint: Connector_Audio:Jack_6.35mm_Neutrik_NRJ6HH-1_Horizontal; Datasheet: https://www.neutrik.com/en/product/nrj6hh-1
pins: G, R, RN, S, T, TN

## NRJ6HH-AU
designator *  value NRJ6HH-AU  Reference: J
ki_keywords: audio jack receptacle stereo headphones connector neutrik; ki_description: Slim Jacks, 6.35mm (1/4in) stereo jack, switched, gold plated contacts, half threaded nose; ki_fp_filters: Jack*; Footprint: Connector_Audio:Jack_6.35mm_Neutrik_NRJ6HH-AU_Horizontal; Datasheet: https://www.neutrik.com/en/product/nrj6hh-au
pins: R, RN, S, SN, T, TN

## NRJ6HM-1
designator *  value NRJ6HM-1  Reference: J
ki_keywords: audio jack receptacle stereo headphones connector neutrik; ki_description: Slim Jacks, 6.35mm (1/4in) stereo jack, metal nose with efficient chassis ground connection, T+R+S normalling contact; ki_fp_filters: Jack*; Footprint: Connector_Audio:Jack_6.35mm_Neutrik_NRJ6HM-1_Horizontal; Datasheet: https://www.neutrik.com/en/product/nrj6hm-1
pins: R, RN, S, SN, T, TN

## NRJ6HM-1-AU
designator *  value NRJ6HM-1-AU  Reference: J
ki_keywords: audio jack receptacle stereo headphones connector neutrik; ki_description: Slim Jacks, 6.35mm (1/4in) stereo jack, metal nose, gold plated contacts, efficient chassis ground connection, T+R+S normalling contact; ki_fp_filters: Jack*; Footprint: Connector_Audio:Jack_6.35mm_Neutrik_NRJ6HM-1-AU_Horizontal; Datasheet: https://www.neutrik.com/en/product/nrj6hm-1-au
pins: R, RN, S, SN, T, TN

## NRJ6HM-1-PRE
designator *  value NRJ6HM-1-PRE  Reference: J
ki_keywords: audio jack receptacle stereo headphones phones TRS connector neutrik; ki_description: Slim Jacks, 6.35mm (1/4in) stereo jack, metal nose, efficient chassis ground connection, T+R normalling contact; ki_fp_filters: Jack*; Footprint: Connector_Audio:Jack_6.35mm_Neutrik_NRJ6HM-1-PRE_Horizontal; Datasheet: https://www.neutrik.com/en/product/nrj6hm-1-pre
pins: R, RN, S, T, TN

## NSJ8HC
designator *  value NSJ8HC  Reference: J
ki_keywords: audio jack dual receptacle mono headphones phone TS connector neutrik; ki_description: Obsolete: Stacking Jacks, Mono dual jack, full nose; ki_fp_filters: Jack*; Footprint: Connector_Audio:Jack_6.35mm_Neutrik_NSJ8HC_Horizontal; Datasheet: https://www.neutrik.com/en/product/nsj8hc
part A pins: G, S1, SN1, T1, TN1
part B pins: S2, SN2, T2, TN2

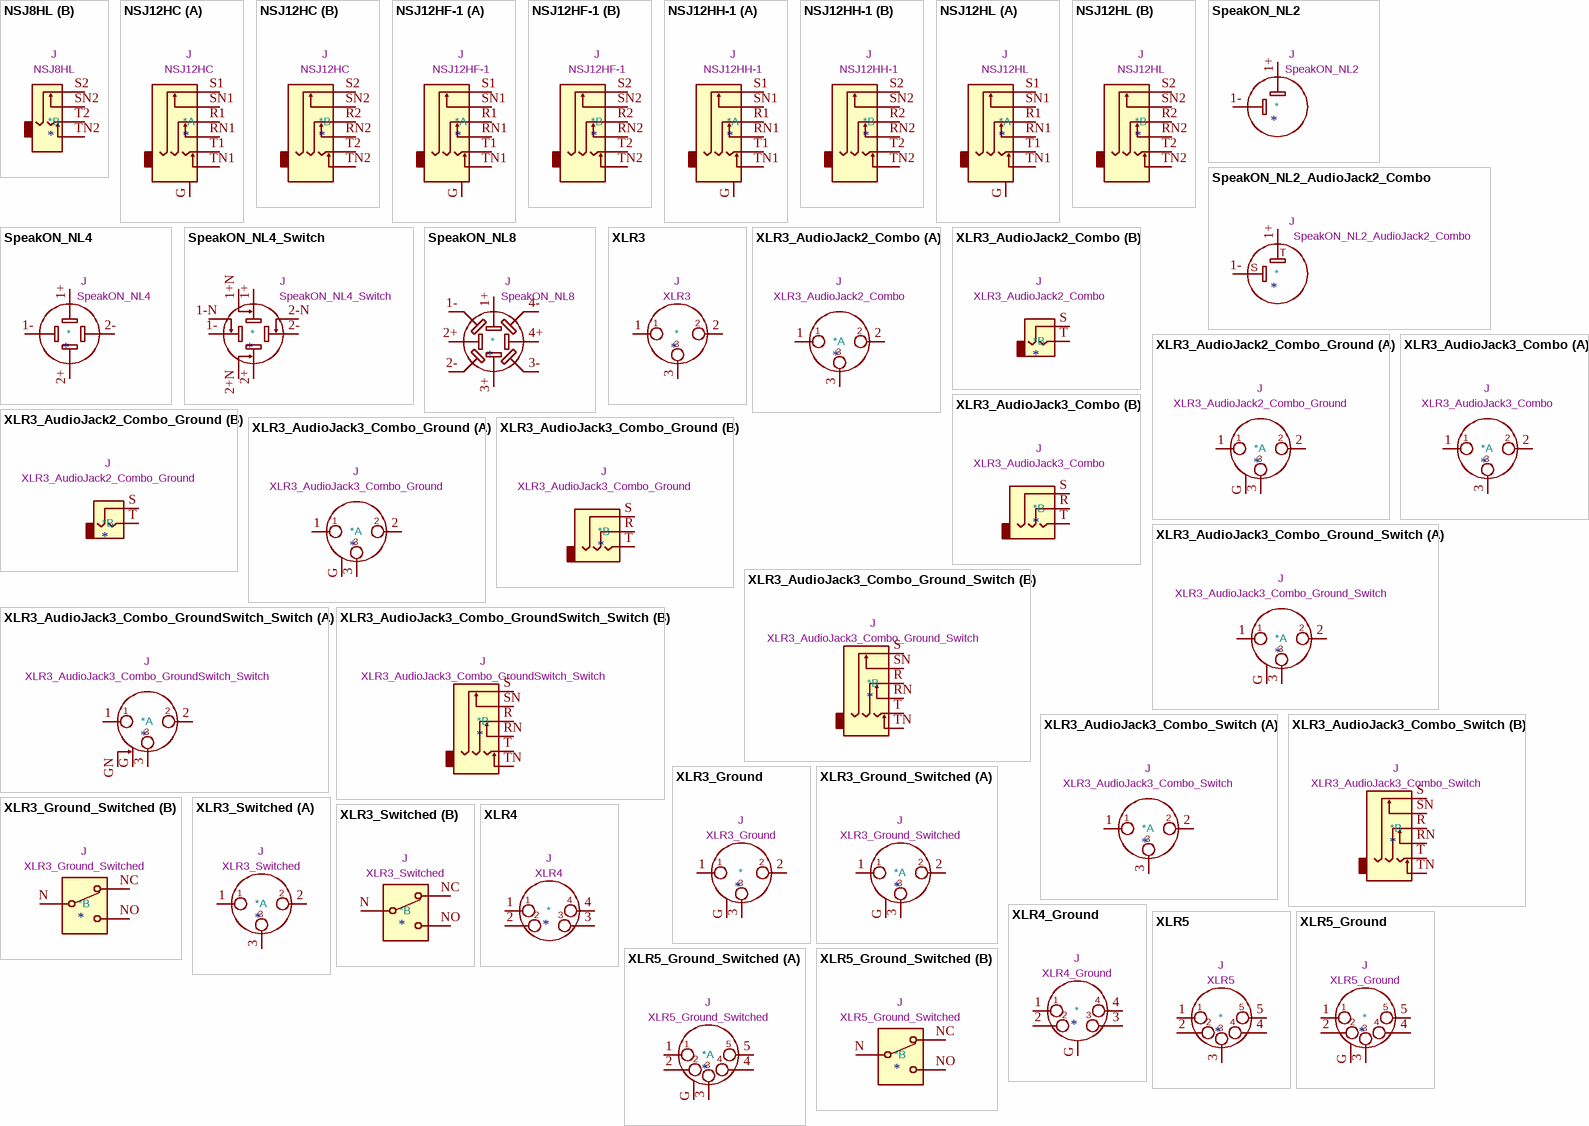
[diagram p6: symbols NSJ8HL to XLR5_Ground_Switched]

## NSJ8HL
designator *  value NSJ8HL  Reference: J
ki_keywords: audio jack dual receptacle mono headphones phone TS connector neutrik; ki_description: Obsolete: Stacking Jacks, Mono dual jack, quick fix nose; ki_fp_filters: Jack*; Footprint: Connector_Audio:Jack_6.35mm_Neutrik_NSJ8HL_Horizontal; Datasheet: https://www.neutrik.com/en/product/nsj8hl
part A pins: G, S1, SN1, T1, TN1
part B pins: S2, SN2, T2, TN2

## NSJ12HC
designator *  value NSJ12HC  Reference: J
ki_keywords: audio jack dual receptacle stereo headphones phones TRS connector neutrik; ki_description: Stacking Jacks, Stereo dual jack, full nose; ki_fp_filters: Jack*; Footprint: Connector_Audio:Jack_6.35mm_Neutrik_NSJ12HC_Horizontal; Datasheet: https://www.neutrik.com/en/product/nsj12hc
part A pins: G, R1, RN1, S1, SN1, T1, TN1
part B pins: R2, RN2, S2, SN2, T2, TN2

## NSJ12HF-1
designator *  value NSJ12HF-1  Reference: J
ki_keywords: audio jack dual receptacle stereo headphones phones TRS connector neutrik; ki_description: Stacking Jacks, Stereo dual jack, full threaded nose; ki_fp_filters: Jack*; Footprint: Connector_Audio:Jack_6.35mm_Neutrik_NSJ12HF-1_Horizontal; Datasheet: https://www.neutrik.com/en/product/nsj12hf-1
part A pins: G, R1, RN1, S1, SN1, T1, TN1
part B pins: R2, RN2, S2, SN2, T2, TN2

## NSJ12HH-1
designator *  value NSJ12HH-1  Reference: J
ki_keywords: audio jack dual receptacle stereo headphones phones TRS connector neutrik; ki_description: Obsolete: Stacking Jacks, Stereo dual jack, half threaded nose; ki_fp_filters: Jack*; Footprint: Connector_Audio:Jack_6.35mm_Neutrik_NSJ12HH-1_Horizontal; Datasheet: https://www.neutrik.com/en/product/nsj12hh-1
part A pins: G, R1, RN1, S1, SN1, T1, TN1
part B pins: R2, RN2, S2, SN2, T2, TN2

## NSJ12HL
designator *  value NSJ12HL  Reference: J
ki_keywords: audio jack dual receptacle stereo headphones phones TRS connector neutrik; ki_description: Obsolete: Stacking Jacks, Stereo dual jack, quick fix nose; ki_fp_filters: Jack*; Footprint: Connector_Audio:Jack_6.35mm_Neutrik_NSJ12HL_Horizontal; Datasheet: https://www.neutrik.com/en/product/nsj12hl
part A pins: G, R1, RN1, S1, SN1, T1, TN1
part B pins: R2, RN2, S2, SN2, T2, TN2

## SpeakON_NL2
designator *  value SpeakON_NL2  Reference: J
ki_keywords: speakon connector; ki_description: speakON Connector, Male or Female, NL2; ki_fp_filters: Jack*speakON*; Datasheet: http://www.neutrik.com/en/speakon/
pins: 1+, 1-

## SpeakON_NL2_AudioJack2_Combo
designator *  value SpeakON_NL2_AudioJack2_Combo  Reference: J
ki_keywords: speakon connector; ki_description: speakON NL2 (Male or Female) and Audio Jack (Mono / TS) Combo Connector; ki_fp_filters: Jack*speakON*; Datasheet: http://www.neutrik.com/en/speakon/
pins: 1+, 1-
text: T; S

## SpeakON_NL4
designator *  value SpeakON_NL4  Reference: J
ki_keywords: speakon connector; ki_description: speakON Connector, Male or Female, NL4; ki_fp_filters: Jack*speakON*; Datasheet: http://www.neutrik.com/en/speakon/
pins: 1+, 1-, 2+, 2-

## SpeakON_NL4_Switch
designator *  value SpeakON_NL4_Switch  Reference: J
ki_keywords: speakon connector; ki_description: speakON Connector, Male or Female, NL4, Switched Pins; ki_fp_filters: Jack*speakON*; Datasheet: http://www.neutrik.com/en/speakon/
pins: 1+, 1+N, 1-, 1-N, 2+, 2+N, 2-, 2-N

## SpeakON_NL8
designator *  value SpeakON_NL8  Reference: J
ki_keywords: speakon connector; ki_description: speakON Connector, Male or Female, NL8; ki_fp_filters: Jack*speakON*; Datasheet: http://www.neutrik.com/en/speakon/
pins: 1+, 1-, 2+, 2-, 3+, 3-, 4+, 4-

## XLR3
designator *  value XLR3  Reference: J
ki_keywords: xlr connector; ki_description: XLR Connector, Male or Female, 3 Pins; ki_fp_filters: Jack*XLR*; Datasheet: ~
pins: 1, 2, 3

## XLR3_AudioJack2_Combo
designator *  value XLR3_AudioJack2_Combo  Reference: J
ki_keywords: xlr connector; ki_description: XLR (Male or Female) and Audio Jack (Mono / TS) Combo Connector, Discrete Ground Pin; ki_fp_filters: Jack*XLR*6.35mm*; Datasheet: ~
part A pins: 1, 2, 3
part B pins: S, T

## XLR3_AudioJack2_Combo_Ground
designator *  value XLR3_AudioJack2_Combo_Ground  Reference: J
ki_keywords: xlr connector; ki_description: XLR (Male or Female) and Audio Jack (Mono / TS) Combo Connector, Discrete Ground Pin; ki_fp_filters: Jack*XLR*6.35mm*; Datasheet: ~
part A pins: 1, 2, 3, G
part B pins: S, T

## XLR3_AudioJack3_Combo
designator *  value XLR3_AudioJack3_Combo  Reference: J
ki_keywords: xlr connector; ki_description: XLR (Male or Female) and Audio Jack (Stereo / TRS) Combo Connector, Discrete Ground Pin; ki_fp_filters: Jack*XLR*6.35mm*; Datasheet: ~
part A pins: 1, 2, 3
part B pins: R, S, T

## XLR3_AudioJack3_Combo_Ground
designator *  value XLR3_AudioJack3_Combo_Ground  Reference: J
ki_keywords: xlr connector; ki_description: XLR (Male or Female) and Audio Jack (Stereo / TRS) Combo Connector, Discrete Ground Pin; ki_fp_filters: Jack*XLR*6.35mm*; Datasheet: ~
part A pins: 1, 2, 3, G
part B pins: R, S, T

## XLR3_AudioJack3_Combo_Ground_Switch
designator *  value XLR3_AudioJack3_Combo_Ground_Switch  Reference: J
ki_keywords: xlr connector; ki_description: XLR (Male or Female) and Audio Jack (Stereo / TRS, Switched Poles (Normalling)) Combo Connector, Discrete Ground Pin; ki_fp_filters: Jack*XLR*6.35mm*; Datasheet: ~
part A pins: 1, 2, 3, G
part B pins: R, RN, S, SN, T, TN

## XLR3_AudioJack3_Combo_GroundSwitch_Switch
designator *  value XLR3_AudioJack3_Combo_GroundSwitch_Switch  Reference: J
ki_keywords: xlr connector; ki_description: XLR (Male or Female) and Audio Jack (Stereo / TRS, Switched Poles (Normalling)) Combo Connector, Discrete Switched Ground Pin; ki_fp_filters: Jack*XLR*6.35mm*; Datasheet: ~
part A pins: 1, 2, 3, G, GN
part B pins: R, RN, S, SN, T, TN

## XLR3_AudioJack3_Combo_Switch
designator *  value XLR3_AudioJack3_Combo_Switch  Reference: J
ki_keywords: xlr connector; ki_description: XLR (Male or Female) and Audio Jack (Stereo / TRS, Switched Poles (Normalling)) Combo Connector; ki_fp_filters: Jack*XLR*6.35mm*; Datasheet: ~
part A pins: 1, 2, 3
part B pins: R, RN, S, SN, T, TN

## XLR3_Ground
designator *  value XLR3_Ground  Reference: J
ki_keywords: xlr connector; ki_description: XLR Connector, Male or Female, 3 Pins, Discrete Ground Pin; ki_fp_filters: Jack*XLR*; Datasheet: ~
pins: 1, 2, 3, G

## XLR3_Ground_Switched
designator *  value XLR3_Ground_Switched  Reference: J
ki_keywords: xlr connector; ki_description: XLR Connector, Male or Female, 3 Pins, Discrete Ground Pin, SPDT Switch; ki_fp_filters: Jack*XLR*; Datasheet: ~
part A pins: 1, 2, 3, G
part B pins: N, NC, NO

## XLR3_Switched
designator *  value XLR3_Switched  Reference: J
ki_keywords: xlr connector; ki_description: XLR Connector, Male or Female, 3 Pins, SPDT Switch; ki_fp_filters: Jack*XLR*; Datasheet: ~
part A pins: 1, 2, 3
part B pins: N, NC, NO

## XLR4
designator *  value XLR4  Reference: J
ki_keywords: xlr connector; ki_description: XLR Connector, Male or Female, 4 Pins; ki_fp_filters: Jack*XLR*; Datasheet: ~
pins: 1, 2, 3, 4

## XLR4_Ground
designator *  value XLR4_Ground  Reference: J
ki_keywords: xlr connector; ki_description: XLR Connector, Male or Female, 4 Pins, Discrete Ground Pin; ki_fp_filters: Jack*XLR*; Datasheet: ~
pins: 1, 2, 3, 4, G

## XLR5
designator *  value XLR5  Reference: J
ki_keywords: xlr connector; ki_description: XLR Connector, Male or Female, 5 Pins; ki_fp_filters: Jack*XLR*; Datasheet: ~
pins: 1 P1, 2 P2, 3 P3, 4 P3, 5 P5

## XLR5_Ground
designator *  value XLR5_Ground  Reference: J
ki_keywords: xlr connector; ki_description: XLR Connector, Male or Female, 5 Pins, Discrete Ground Pin; ki_fp_filters: Jack*XLR*; Datasheet: ~
pins: 1 P1, 2 P2, 3 P3, 4 P3, 5 P5, G

## XLR5_Ground_Switched
designator *  value XLR5_Ground_Switched  Reference: J
ki_keywords: xlr connector; ki_description: XLR Connector, Male or Female, 5 Pins, Discrete Ground Pin, SPDT Switch; ki_fp_filters: Jack*XLR*; Datasheet: ~
part A pins: 1 P1, 2 P2, 3 P3, 4 P3, 5 P5, G
part B pins: N, NC, NO

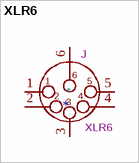
[diagram p7: symbol XLR6]

## XLR6
designator *  value XLR6  Reference: J
ki_keywords: xlr connector; ki_description: XLR Connector, Male or Female, 6 Pins; ki_fp_filters: Jack*XLR*; Datasheet: ~
pins: 1 P1, 2 P2, 3 P3, 4 P3, 5 P5, 6 P6